# Altium schematic symbol library Schlib1.SchLib: 2 symbols
Pins are listed as number, name and electrical type; pins without a type are passive.

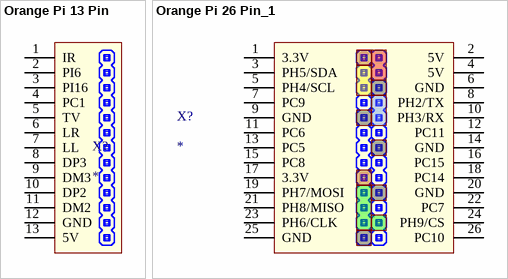
[diagram p0: symbols Orange Pi 13 Pin to Orange Pi 26 Pin_1]

## Orange Pi 13 Pin
designator X?
footprint 13pin Orange Pi
pins: 1 IR, 2 PI6, 3 PI16, 4 PC1, 5 TV, 6 LR, 7 LL, 8 DP3, 9 DM3, 10 DP2, 11 DM2, 12 GND, 13 5V

## Orange Pi 26 Pin_1
designator X?
footprint 26pin Orange Pi Bottom
footprint 26pin Orange Pi Top
pins: 1 3.3V, 2 5V, 3 PH5/SDA, 4 5V, 5 PH4/SCL, 6 GND, 7 PC9, 8 PH2/TX, 9 GND, 10 PH3/RX, 11 PC6, 12 PC11, 13 PC5, 14 GND, 15 PC8, 16 PC15, 17 3.3V, 18 PC14, 19 PH7/MOSI, 20 GND, 21 PH8/MISO, 22 PC7, 23 PH6/CLK, 24 PH9/CS, 25 GND, 26 PC10